# Altium footprint library LGA16.PcbLib: 1 footprints
Each footprint in its own frame and in the unit in brackets; x right, y up, seen from the top. Pads: shape width x height; smd on the part's side, far side on the other; paste and mask are expansions set on the pad; w line width, h text height; cw(c..) or ccw(c..) is an arc to the next point about the centre after c.
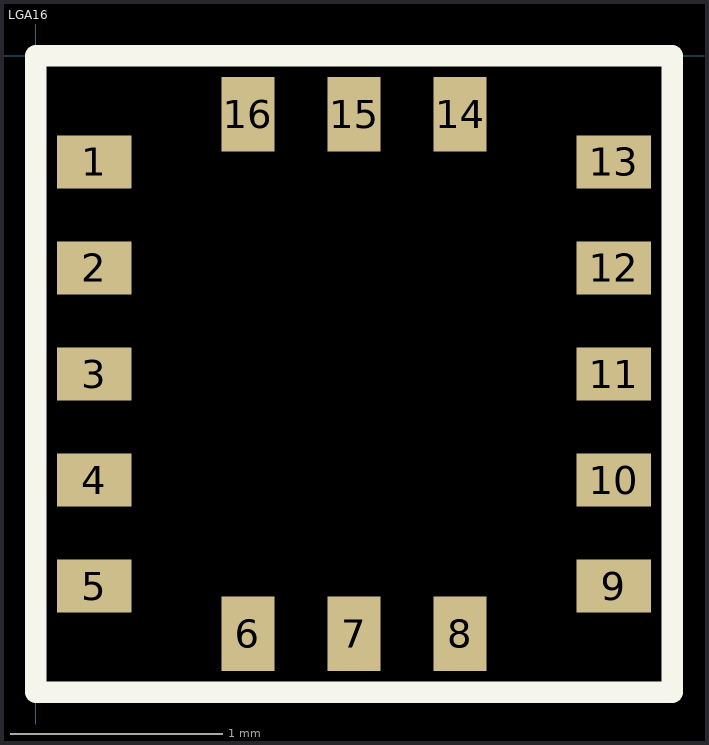
[diagram p0: the footprint, top view; thin cyan lines are the x and y axes]

## LGA16 [mm]
pads (16):
  rect 0.35x0.25 smd: 1(0.275,-0.5) 2(0.275,-1) 3(0.275,-1.5) 4(0.275,-2) 5(0.275,-2.5) 9(2.725,-2.5) 10(2.725,-2) 11(2.725,-1.5) 12(2.725,-1) 13(2.725,-0.5)
  rect 0.25x0.35 smd: 6(1,-2.725) 7(1.5,-2.725) 8(2,-2.725) 14(2,-0.275) 15(1.5,-0.275) 16(1,-0.275)
Top Overlay:
  lines w0.1: 0,-3 0,0 3,0 3,-3 0,-3